# Altium footprint library Switches.PcbLib: 3 footprints
Each footprint in its own frame and in the unit in brackets; x right, y up, seen from the top. Pads: shape width x height; smd on the part's side, far side on the other; paste and mask are expansions set on the pad; w line width, h text height; cw(c..) or ccw(c..) is an arc to the next point about the centre after c.
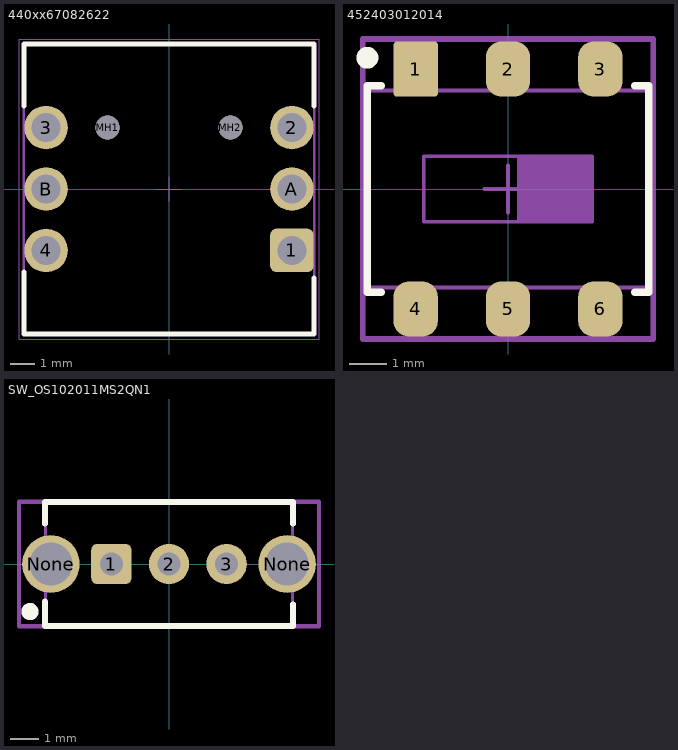
[diagram p0: the footprints below, top view; thin cyan lines are the x and y axes]

## 440xx67082622 [mm]
height 8.2
pads (8):
  rrect30% 1.8x1.8 hole 1.2: 1(5.08,-2.54)
  round 1.8 hole 1.2: 2(5.08,2.54) 3(-5.08,2.54) 4(-5.08,-2.54) A(5.08,0) B(-5.08,0)
  round 1 hole 1 unplated: MH1(-2.54,2.54) MH2(2.54,2.54)
Top Overlay:
  lines w0.2: -6,-3.429 -6,-6 6,-6 6,-3.683 ; -6,3.429 -6,6 6,6 6,3.429
Mechanical 13:
  lines w0.1: -6,-6 6,-6 6,6 -6,6 -6,-6
Mechanical 15:
  lines w0.05: -0.5,0 0.5,0 ; 0,-0.5 0,0.5 ; -6.2,-6.2 6.2,-6.2 6.2,6.2 -6.2,6.2 -6.2,-6.2
Mechanical 17:
  text ".Designator" at -1.046,-0.162 h1.5
3D body "440xx67082622.stp": height 8.3, standoff -3.2, extent -6,-6 6,6

## 452403012014 [mm] "WS-SLSV Slide Switch, SMD version, same side connection"
height 3.3
pads (6):
  rrect15% 1.2x1.5 smd: 1(-2.5,3.25)
  rrect70% 1.2x1.5 smd: 2(0,3.25) 3(2.5,3.25) 4(-2.5,-3.25) 5(0,-3.25) 6(2.5,-3.25)
Top Overlay:
  circle w0.5: c-3.81,3.556 r0.045
  lines w0.2: -3.429,-2.794 -3.81,-2.794 -3.81,2.794 -3.429,2.794 ; 3.429,-2.794 3.81,-2.794 3.81,2.794 3.429,2.794
Mechanical 13:
  region: 0.254,0.889 2.286,0.889 2.286,-0.889 0.254,-0.889
  lines w0.1: -3.81,-2.667 -3.81,2.667 3.81,2.667 3.81,-2.667 -3.81,-2.667 ; -2.286,-0.889 -2.286,0.889 2.286,0.889 2.286,-0.889 -2.286,-0.889
Mechanical 15:
  lines w0.1: -0.635,0 0.635,0 ; 0,-0.635 0,0.635
  lines w0.15: -3.937,-4.064 3.937,-4.064 3.937,4.064 -3.937,4.064 -3.937,-4.064
Mechanical 17:
  text ".Designator" at -2.794,1.143 h1.5
3D body "452403012014.stp": height 3.45, standoff -0.03, extent -3.85,-3.75 3.85,3.75

## SW_OS102011MS2QN1 [mm]
pads (5):
  rrect30% 1.4x1.4 hole 0.8: 1(-2,0)
  round 1.4 hole 0.8: 2(0,0) 3(2,0)
  round 2 hole 1.5: None(-4.1,0) None(4.1,0)
Top Overlay:
  circle w0.3: c-4.826,-1.651 r0.15
  lines w0.2: -4.3,-1.3 -4.3,-2.15 4.3,-2.15 4.3,-1.4 ; -4.3,1.4 -4.3,2.15 4.3,2.15 4.3,1.4
Mechanical 13:
  lines w0.1: -4.293,2.134 -4.293,-2.159 4.293,-2.159 4.293,2.134 ; -4.293,2.159 4.293,2.159
Mechanical 15:
  lines w0.1: -0.5,0 0.5,0 ; 0,-0.5 0,0.5
  lines w0.15: -5.207,-2.159 -5.207,2.159 5.207,2.159 5.207,-2.159 -5.207,-2.159
Mechanical 17:
  text ".Designator" at -1.046,-0.162 h1.5
3D body "User Library-OS102011MS2QN1.STEP": height 8, standoff -3.41, extent -4.308,-2.159 4.293,2.141